# Altium footprint library BLA31BD601SN4D.PcbLib: 1 footprints
Each footprint in its own frame and in the unit in brackets; x right, y up, seen from the top. Pads: shape width x height; smd on the part's side, far side on the other; paste and mask are expansions set on the pad; w line width, h text height; cw(c..) or ccw(c..) is an arc to the next point about the centre after c.
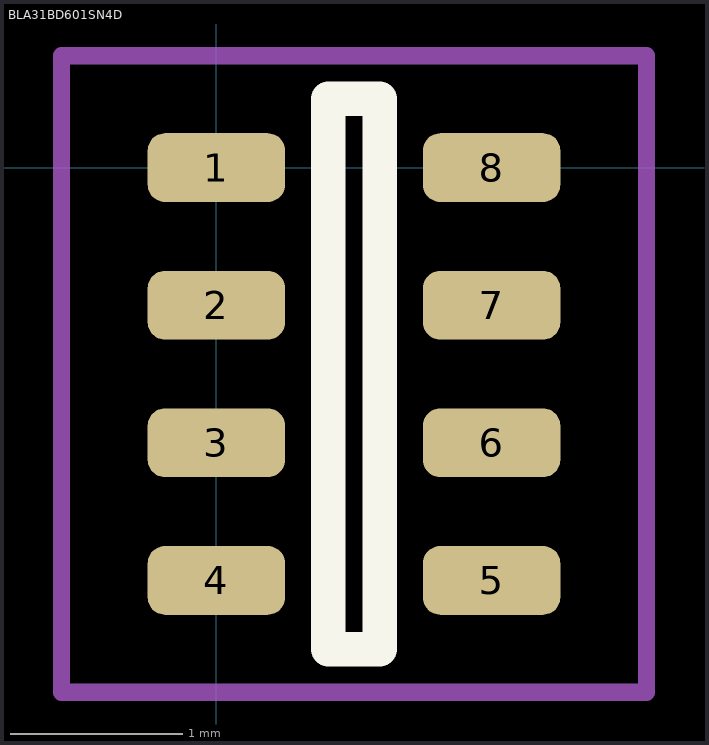
[diagram p0: the footprint, top view; thin cyan lines are the x and y axes]

## BLA31BD601SN4D [mm]
pads (8):
  rrect50% 0.8x0.4 smd: 1(0,0) 2(0,-0.8) 3(0,-1.6) 4(0,-2.4) 5(1.6,-2.4) 6(1.6,-1.6) 7(1.6,-0.8) 8(1.6,0)
Top Overlay:
  lines w0.2: 0.65,-2.8 0.95,-2.8 0.95,0.4 0.65,0.4 0.65,-2.8
Top Courtyard:
  lines w0.1: -0.9,-3.05 -0.9,0.65 2.5,0.65 2.5,-3.05 0.65,-3.05 -0.9,-3.05
3D body "step_temp.STEP": height 1, standoff 0, extent 0,-2.8 1.6,0.4